# Altium footprint library PA_Receiver.PcbLib: 33 footprints (part 2 of 3)
Each footprint in its own frame and in the unit in brackets; x right, y up, seen from the top. Pads: shape width x height; smd on the part's side, far side on the other; paste and mask are expansions set on the pad; w line width, h text height; cw(c..) or ccw(c..) is an arc to the next point about the centre after c.
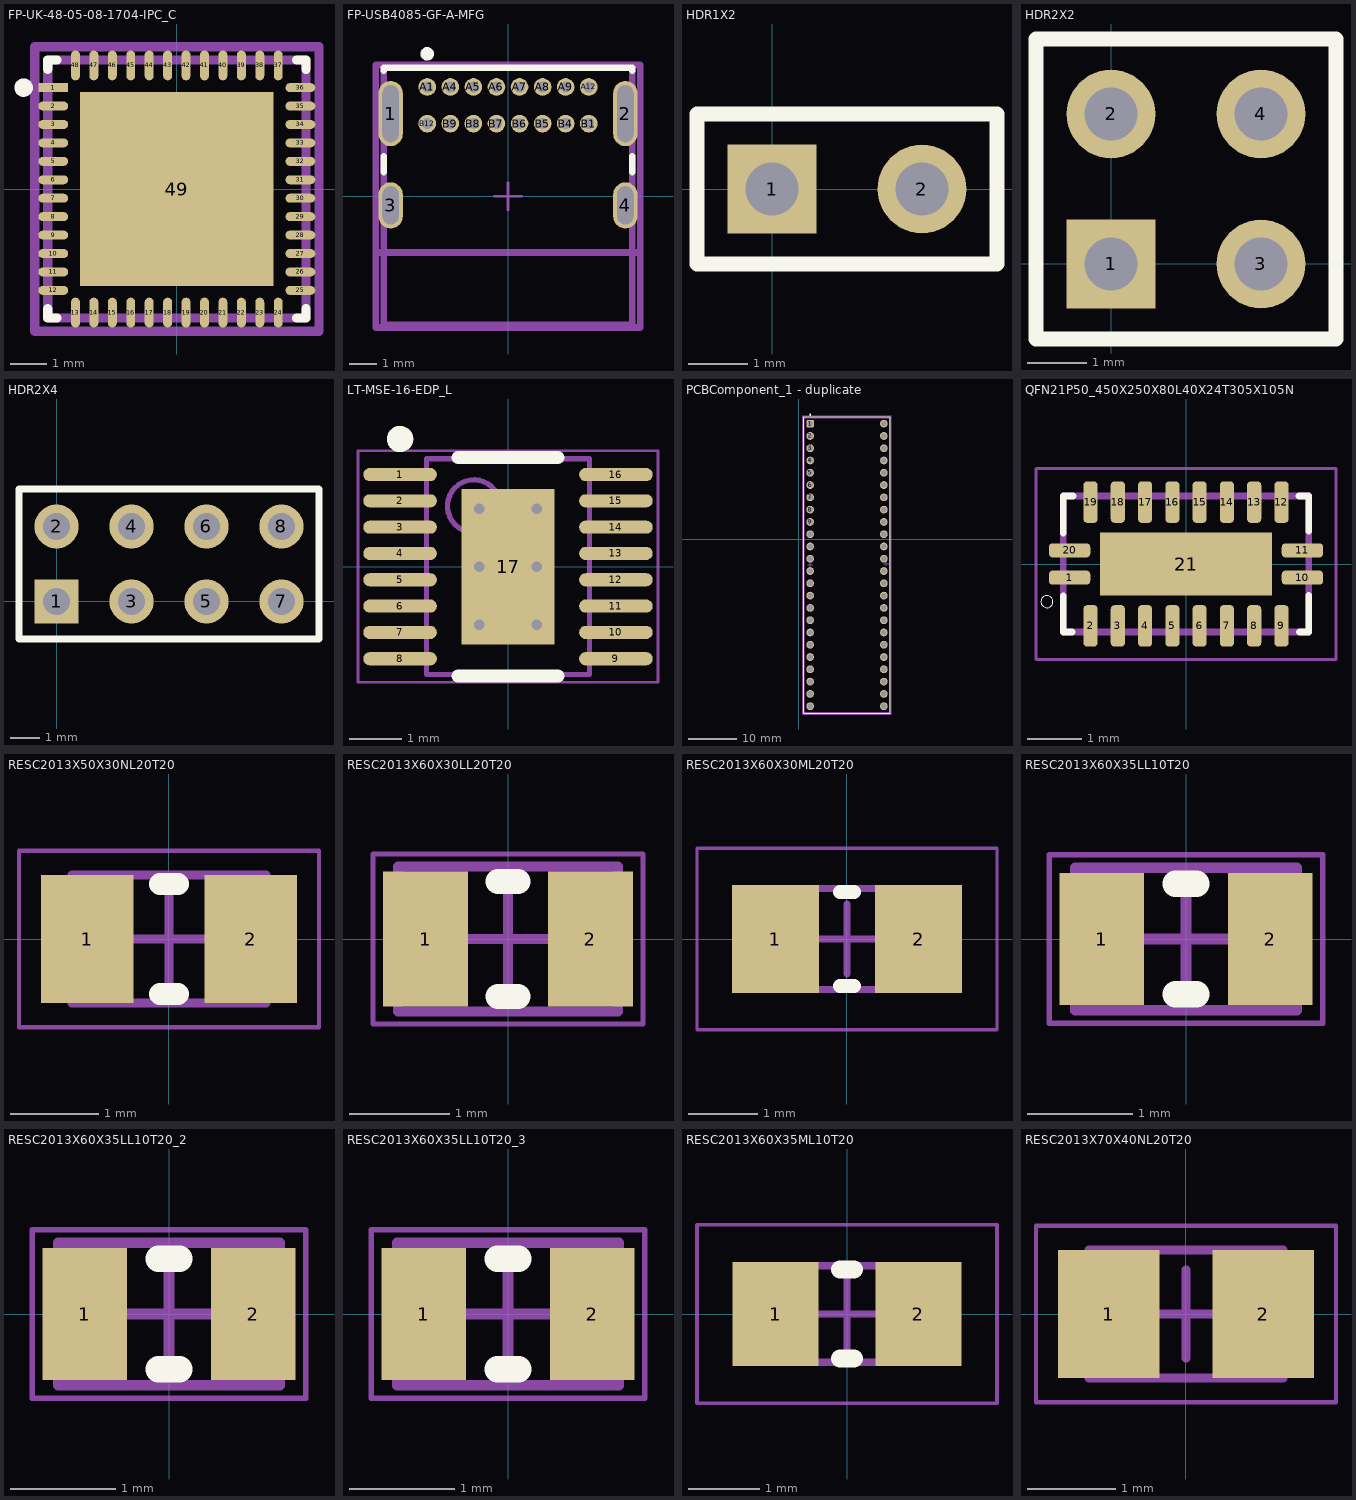
[diagram p1: the footprints below, top view; thin cyan lines are the x and y axes]

## FP-UK-48-05-08-1704-IPC_C [mm]
pads (49):
  rect 0.81x0.242 smd paste+0 mask+0: 1(-3.351,2.75)
  rrect100% 0.81x0.242 smd paste+0 mask+0: 2(-3.351,2.25) 3(-3.351,1.75) 4(-3.351,1.25) 5(-3.351,0.75) 6(-3.351,0.25) 7(-3.351,-0.25) 8(-3.351,-0.75) 9(-3.351,-1.25) 10(-3.351,-1.75) 11(-3.351,-2.25) 12(-3.351,-2.75) 25(3.351,-2.75) 26(3.351,-2.25) 27(3.351,-1.75) 28(3.351,-1.25) 29(3.351,-0.75) 30(3.351,-0.25) 31(3.351,0.25) 32(3.351,0.75) 33(3.351,1.25) 34(3.351,1.75) 35(3.351,2.25) 36(3.351,2.75)
  rrect100% 0.242x0.81 smd paste+0 mask+0: 13(-2.75,-3.351) 14(-2.25,-3.351) 15(-1.75,-3.351) 16(-1.25,-3.351) 17(-0.75,-3.351) 18(-0.25,-3.351) 19(0.25,-3.351) 20(0.75,-3.351) 21(1.25,-3.351) 22(1.75,-3.351) 23(2.25,-3.351) 24(2.75,-3.351) 37(2.75,3.351) 38(2.25,3.351) 39(1.75,3.351) 40(1.25,3.351) 41(0.75,3.351) 42(0.25,3.351) 43(-0.25,3.351) 44(-0.75,3.351) 45(-1.25,3.351) 46(-1.75,3.351) 47(-2.25,3.351) 48(-2.75,3.351)
  rect 5.25x5.25 smd paste-1000 mask+0: 49(0,0)
Top Overlay:
  circle w0.25: c-4.156,2.75 r0.125
  lines w0.25: -3.5,-3.25 -3.5,-3.5 -3.25,-3.5 ; -3.5,3.25 -3.5,3.5 -3.25,3.5 ; 3.25,-3.5 3.5,-3.5 3.5,-3.25 ; 3.25,3.5 3.5,3.5 3.5,3.25
Top Paste:
  rectangle: 0.322,-1.982 1.982,-0.322
  rectangle: -1.982,-1.982 -0.322,-0.322
  rectangle: 0.322,0.322 1.982,1.982
  rectangle: -1.982,0.322 -0.322,1.982
Top Assembly:
  lines w0.25: -3.856,-3.856 -3.856,3.856 3.856,3.856 3.856,-3.856 -3.856,-3.856
  text ".Designator" at 0,-0.001 h1
Top 3D Body:
  lines w0.25: -3.5,-3.5 -3.5,3.5 3.5,3.5 3.5,-3.5 -3.5,-3.5
Top Courtyard:
  lines w0.25: -3.856,-3.856 -3.856,3.856 3.856,3.856 3.856,-3.856 -3.856,-3.856
Top Component Center:
  lines w0.1: -0.5,0 0.5,0 ; 0,-0.5 0,0.5
3D body "IC_Analog_Devices_LTC2203IUK#PBF_eec.STEP": height 0.25, standoff 0, extent -3.856,-3.856 3.856,3.856

## FP-USB4085-GF-A-MFG [mm]
pads (20):
  rrect100% 0.9x2.4 hole 2.1 slot 0.6 at 0 deg paste-2539.97 mask+0: 1(-4.325,3.045) 2(4.325,3.045)
  rrect100% 0.9x1.7 hole 1.4 slot 0.6 at 0 deg paste-2539.97 mask+0: 3(-4.325,-0.335) 4(4.325,-0.335)
  round 0.65 hole 0.4 paste-2539.97 mask+0: A1(-2.975,4.025) A4(-2.125,4.025) A5(-1.275,4.025) A6(-0.425,4.025) A7(0.425,4.025) A8(1.275,4.025) A9(2.125,4.025) A12(2.975,4.025) B1(2.975,2.675) B4(2.125,2.675) B5(1.275,2.675) B6(0.425,2.675) B7(-0.425,2.675) B8(-1.275,2.675) B9(-2.125,2.675) B12(-2.975,2.675)
Top Overlay:
  circle w0.25: c-2.975,5.245 r0.125
  lines w0.25: -4.575,0.89 -4.575,1.47 ; -4.575,4.62 -4.575,4.735 4.575,4.735 4.575,4.62 ; 4.575,0.89 4.575,1.47
Top Assembly:
  lines w0.25: -4.875,-4.835 4.875,-4.835 4.875,4.835 -4.875,4.835 -4.875,-4.835
  text ".Designator" at 0,0.188 h1
Top 3D Body:
  lines w0.25: -4.875,-2.075 4.875,-2.075 ; -4.575,-4.735 4.575,-4.735 4.575,4.735 -4.575,4.735 -4.575,-4.735
Top Courtyard:
  lines w0.25: -4.875,-4.835 4.875,-4.835 4.875,4.835 -4.875,4.835 -4.875,-4.835
Top Component Center:
  lines w0.1: -0.5,0 0.5,0 ; 0,-0.5 0,0.5
3D body "Conn_GCT_USB4085-GF-A_eec.STEP": height 0.25, standoff 0, extent -4.875,-4.835 4.875,4.835

## HDR1X2 [mm] "Connector; Header; 2 Position"
pads (2):
  rect 1.5x1.5 hole 0.9: 1(0,0)
  round 1.5 hole 0.9: 2(2.54,0)
Top Overlay:
  lines w0.25: -1.27,-1.27 3.81,-1.27 3.81,1.27 -1.27,1.27 -1.27,-1.27

## HDR2X2 [mm] "Connector; Header; 2x2 Position"
pads (4):
  rect 1.5x1.5 hole 0.9: 1(0,0)
  round 1.5 hole 0.9: 2(0,2.54) 3(2.54,0) 4(2.54,2.54)
Top Overlay:
  lines w0.25: -1.27,-1.27 3.81,-1.27 3.81,3.81 -1.27,3.81 -1.27,-1.27

## HDR2X4 [mm] "Connector; Header; 4x2 Position"
pads (8):
  rect 1.5x1.5 hole 0.9: 1(0,0)
  round 1.5 hole 0.9: 2(0,2.54) 3(2.54,0) 4(2.54,2.54) 5(5.08,0) 6(5.08,2.54) 7(7.62,0) 8(7.62,2.54)
Top Overlay:
  lines w0.25: -1.27,-1.27 8.89,-1.27 8.89,3.81 -1.27,3.81 -1.27,-1.27

## LT-MSE-16-EDP_L [mm] "SOP, 16-Leads, Body 4.1x3.1mm, Pitch 0.5mm, Thermal Pad 2.95x1.76mm, IPC High Density"
height 1.1
pads (17):
  oval 1.4x0.25 smd: 1(-2.05,1.75) 2(-2.05,1.25) 3(-2.05,0.75) 4(-2.05,0.25) 5(-2.05,-0.25) 6(-2.05,-0.75) 7(-2.05,-1.25) 8(-2.05,-1.75) 9(2.05,-1.75) 10(2.05,-1.25) 11(2.05,-0.75) 12(2.05,-0.25) 13(2.05,0.25) 14(2.05,0.75) 15(2.05,1.25) 16(2.05,1.75)
  rect 1.76x2.95 smd: 17(0,0)
via 0.55,-1.1 diameter 0.5 hole 0.2
via -0.55,-1.1 diameter 0.5 hole 0.2
via 0.55,0 diameter 0.5 hole 0.2
via -0.55,0 diameter 0.5 hole 0.2
via 0.55,1.1 diameter 0.5 hole 0.2
via -0.55,1.1 diameter 0.5 hole 0.2
Top Overlay:
  circle w0.25: c-2.05,2.425 r0.125
  lines w0.25: -0.951,-2.075 0.951,-2.075 ; -0.951,2.075 0.951,2.075
Top 3D Body:
  circle w0.1: c-0.65,1.15 r0.5
  lines w0.1: -1.55,-2.05 -1.55,2.05 1.55,2.05 1.55,-2.05 -1.55,-2.05
Top Courtyard:
  lines w0.05: -2.85,-2.2 -2.85,2.2 2.85,2.2 2.85,-2.2 -2.85,-2.2
  lines w0.1: -0.5,0 0.5,0 ; 0,-0.5 0,0.5
3D body: height 1.1, standoff 0.05, extent -1.55,-2.05 1.55,2.05

## PCBComponent_1 - duplicate [mm]
pads (48):
  rrect50% 1.6x1.6 hole 1.1: 1(2.398,23.864)
  round 1.6 hole 1.1: 2(2.398,21.324) 3(2.398,18.784) 4(2.398,16.244) 5(2.398,13.704) 6(2.398,11.164) 7(2.398,8.624) 8(2.398,6.084) 9(2.398,3.544) 10(2.398,1.004) 11(2.398,-1.536) 12(2.398,-4.076) 13(2.398,-6.616) 14(2.398,-9.156) 15(2.398,-11.696) 16(2.398,-14.236) 17(2.398,-16.776) 18(2.398,-19.316) 19(2.398,-21.856) 20(2.398,-24.396) 21(2.398,-26.936) 22(2.398,-29.476) 23(2.398,-32.016) 24(2.398,-34.556) 25(17.638,-34.556) 26(17.638,-32.016) 27(17.638,-29.476) 28(17.638,-26.936) 29(17.638,-24.396) 30(17.638,-21.856) 31(17.638,-19.316) 32(17.638,-16.776) 33(17.638,-14.236) 34(17.638,-11.696) 35(17.638,-9.156) 36(17.638,-6.616) 37(17.638,-4.076) 38(17.638,-1.536) 39(17.638,1.004) 40(17.638,3.544) 41(17.638,6.084) 42(17.638,8.624) 43(17.638,11.164) 44(17.638,13.704) 45(17.638,16.244) 46(17.638,18.784) 47(17.638,21.324) 48(17.638,23.864)
Top Overlay:
  circle w0.25: c2.398,25.734 r0.125
  lines w0.25: 18.923,-35.976 1.053,-35.976 1.053,25.284 18.923,25.284 ; 18.983,-35.976 18.983,25.284
Top Designator:
  text ".Designator" at 1.898,2.152 h1.5
Top Component Outline:
  lines w0.1: 1.128,-35.826 1.128,25.134 18.908,25.134 18.908,-35.826 1.128,-35.826
Top Courtyard:
  lines w0.05: 0.853,-36.176 0.853,25.484 19.183,25.484 19.183,-36.176 0.853,-36.176
Top Component Center:
  lines w0.05: 1.898,-5.346 2.898,-5.346 ; 2.398,-5.846 2.398,-4.846 ; 17.638,-5.058 18.638,-5.058 ; 18.138,-5.558 18.138,-4.558

## QFN21P50_450X250X80L40X24T305X105N [mm]
pads (21):
  rrect53% 0.76x0.26 smd: 1(-2.135,-0.25) 10(2.135,-0.25) 11(2.135,0.25) 20(-2.135,0.25)
  rrect53% 0.26x0.76 smd: 2(-1.75,-1.135) 3(-1.25,-1.135) 4(-0.75,-1.135) 5(-0.25,-1.135) 6(0.25,-1.135) 7(0.75,-1.135) 8(1.25,-1.135) 9(1.75,-1.135) 12(1.75,1.135) 13(1.25,1.135) 14(0.75,1.135) 15(0.25,1.135) 16(-0.25,1.135) 17(-0.75,1.135) 18(-1.25,1.135) 19(-1.75,1.135)
  rect 3.15x1.15 smd paste-3: 21(0,0)
Top Overlay:
  circle w0: c-2.55,-0.69 r0.11
  lines w0.127: -2.25,-0.59 -2.25,-1.25 -2.09,-1.25 ; -2.25,0.57 -2.25,1.25 -2.07,1.25 ; 2.07,1.25 2.25,1.25 2.25,0.6 ; 2.08,-1.25 2.25,-1.25 2.25,-0.58
Top Paste:
  region: -0.075,-0.319 -1.45,-0.319 -1.45,0.305 -0.075,0.305
  region: 1.385,-0.32 0.079,-0.32 0.079,0.305 1.385,0.305
Top 3D Body:
  lines w0.127: -2.25,-1.25 -2.25,1.25 2.25,1.25 2.25,-1.25 -2.25,-1.25
Top Courtyard:
  lines w0.05: -2,1.75 2.75,1.75 2.75,-1.75 -2.75,-1.75 -2.75,1.75 -1.75,1.75

## RESC2013X50X30NL20T20 [mm] "Chip Resistor, 2-Leads, Body 2.00x1.25mm, IPC Medium Density"
height 0.5
pads (2):
  rect 1.05x1.45 smd: 1(-0.925,0) 2(0.925,0)
Top Overlay:
  lines w0.25: -0.1,-0.625 0.1,-0.625 ; -0.1,0.625 0.1,0.625
Top 3D Body:
  lines w0.1: -1.1,-0.725 1.1,-0.725 1.1,0.725 -1.1,0.725 -1.1,-0.725
Top Courtyard:
  lines w0.05: -1.7,-1 1.7,-1 1.7,1 -1.7,1 -1.7,-1
  lines w0.1: -0.5,0 0.5,0 ; 0,-0.5 0,0.5
3D body: height 0.5, standoff 0, extent 0.8,-0.725 1.1,0.725
3D body: height 0.5, standoff 0, extent -1.1,-0.725 -0.8,0.725
3D body: height 0.5, standoff 0, extent -0.8,-0.725 0.8,0.725

## RESC2013X60X30LL20T20 [mm] "Chip Resistor, 2-Leads, Body 2.00x1.25mm, IPC High Density"
height 0.6
pads (2):
  rect 0.85x1.35 smd: 1(-0.825,0) 2(0.825,0)
Top Overlay:
  lines w0.25: -0.1,-0.575 0.1,-0.575 ; -0.1,0.575 0.1,0.575
Top 3D Body:
  lines w0.1: -1.1,-0.725 -1.1,0.725 1.1,0.725 1.1,-0.725 -1.1,-0.725
Top Courtyard:
  lines w0.05: -1.35,-0.85 -1.35,0.85 1.35,0.85 1.35,-0.85 -1.35,-0.85
  lines w0.1: -0.5,0 0.5,0 ; 0,-0.5 0,0.5
3D body: height 0.6, standoff 0, extent -0.8,-0.725 0.8,0.725
3D body: height 0.6, standoff 0, extent -1.1,-0.725 -0.8,0.725
3D body: height 0.6, standoff 0, extent 0.8,-0.725 1.1,0.725

## RESC2013X60X30ML20T20 [mm] "Chip Resistor, 2-Leads, Body 2.00x1.25mm, IPC Low Density"
height 0.6
pads (2):
  rect 1.25x1.55 smd: 1(-1.025,0) 2(1.025,0)
Top Overlay:
  lines w0.2: -0.1,-0.675 0.1,-0.675 ; -0.1,0.675 0.1,0.675
Top 3D Body:
  lines w0.1: -1.1,-0.725 1.1,-0.725 1.1,0.725 -1.1,0.725 -1.1,-0.725
Top Courtyard:
  lines w0.05: -2.15,-1.3 2.15,-1.3 2.15,1.3 -2.15,1.3 -2.15,-1.3
  lines w0.1: -0.5,0 0.5,0 ; 0,-0.5 0,0.5
3D body: height 0.6, standoff 0, extent 0.8,-0.725 1.1,0.725
3D body: height 0.6, standoff 0, extent -1.1,-0.725 -0.8,0.725
3D body: height 0.6, standoff 0, extent -0.8,-0.725 0.8,0.725

## RESC2013X60X35LL10T20 [mm] "Chip Resistor, 2-Leads, Body 2.00x1.25mm, IPC High Density"
height 0.6
pads (2):
  rect 0.8x1.25 smd: 1(-0.8,0) 2(0.8,0)
Top Overlay:
  lines w0.25: -0.1,-0.525 0.1,-0.525 ; -0.1,0.525 0.1,0.525
Top 3D Body:
  lines w0.1: -1.05,-0.675 -1.05,0.675 1.05,0.675 1.05,-0.675 -1.05,-0.675
Top Courtyard:
  lines w0.05: -1.3,-0.8 -1.3,0.8 1.3,0.8 1.3,-0.8 -1.3,-0.8
  lines w0.1: -0.5,0 0.5,0 ; 0,-0.5 0,0.5
3D body: height 0.6, standoff 0, extent -0.7,-0.675 0.7,0.675
3D body: height 0.6, standoff 0, extent -1.05,-0.675 -0.7,0.675
3D body: height 0.6, standoff 0, extent 0.7,-0.675 1.05,0.675

## RESC2013X60X35LL10T20_2 [mm]
pads (2):
  rect 0.8x1.25 smd: 1(-0.8,0) 2(0.8,0)
Top Overlay:
  lines w0.25: -0.1,-0.525 0.1,-0.525 ; -0.1,0.525 0.1,0.525
Top 3D Body:
  lines w0.1: -1.05,-0.675 1.05,-0.675 1.05,0.675 -1.05,0.675 -1.05,-0.675
Top Courtyard:
  lines w0.05: -1.3,-0.8 1.3,-0.8 1.3,0.8 -1.3,0.8 -1.3,-0.8
  lines w0.1: -0.5,0 0.5,0 ; 0,-0.5 0,0.5
3D body "RESC2012X06N.step": height 0.6, standoff 0, extent -1.05,-0.675 1.05,0.675

## RESC2013X60X35LL10T20_3 [mm]
pads (2):
  rect 0.8x1.25 smd: 1(-0.8,0) 2(0.8,0)
Top Overlay:
  lines w0.25: -0.1,-0.525 0.1,-0.525 ; -0.1,0.525 0.1,0.525
Top 3D Body:
  lines w0.1: -1.05,-0.675 -1.05,0.675 1.05,0.675 1.05,-0.675 -1.05,-0.675
Top Courtyard:
  lines w0.05: -1.3,-0.8 -1.3,0.8 1.3,0.8 1.3,-0.8 -1.3,-0.8
  lines w0.1: -0.5,0 0.5,0 ; 0,-0.5 0,0.5
3D body: height 0.6, standoff 0, extent -0.7,-0.675 0.7,0.675
3D body: height 0.6, standoff 0, extent -1.05,-0.675 -0.7,0.675
3D body: height 0.6, standoff 0, extent 0.7,-0.675 1.05,0.675

## RESC2013X60X35ML10T20 [mm] "Chip Resistor, 2-Leads, Body 2.1x1.35mm, IPC Low Density"
height 0.6
pads (2):
  rect 1.2x1.45 smd: 1(-1,0) 2(1,0)
Top Overlay:
  lines w0.25: -0.1,-0.625 0.1,-0.625 ; -0.1,0.625 0.1,0.625
Top 3D Body:
  lines w0.1: -1.05,-0.675 1.05,-0.675 1.05,0.675 -1.05,0.675 -1.05,-0.675
Top Courtyard:
  lines w0.05: -2.1,-1.25 2.1,-1.25 2.1,1.25 -2.1,1.25 -2.1,-1.25
  lines w0.1: -0.5,0 0.5,0 ; 0,-0.5 0,0.5
3D body "RESC2012X06N.step": height 0.6, standoff 0, extent -1.05,-0.675 1.05,0.675

## RESC2013X70X40NL20T20 [mm] "Chip Resistor, 2-Leads, Body 2.00x1.25mm, IPC Medium Density"
height 0.7
pads (2):
  rect 1.15x1.45 smd: 1(-0.875,0) 2(0.875,0)
Top 3D Body:
  lines w0.1: -1.1,-0.725 -1.1,0.725 1.1,0.725 1.1,-0.725 -1.1,-0.725
Top Courtyard:
  lines w0.05: -1.7,-1 -1.7,1 1.7,1 1.7,-1 -1.7,-1
  lines w0.1: -0.5,0 0.5,0 ; 0,-0.5 0,0.5
3D body: height 0.7, standoff 0, extent -0.7,-0.725 0.7,0.725
3D body: height 0.7, standoff 0, extent -1.1,-0.725 -0.7,0.725
3D body: height 0.7, standoff 0, extent 0.7,-0.725 1.1,0.725